# EAGLE library part MS5611-01BA03 (library freeimu)
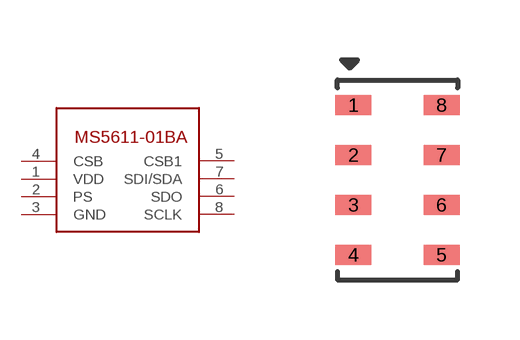
[diagram p0: symbol with the pads of MS5611-01BA03; footprint MS5611-01BA03]

Designator prefix -

## MS5611-01BA03  [MS5611-01BA03]
1  VDD
2  PS
3  GND
4  CSB
5  CSB1
6  SDO
7  SDI/SDA
8  SCLK

## Footprint MS5611-01BA03 (pad centres in mm)
smd 0.9 x 0.5: 1 -1.1,1.875; 2 -1.1,0.625; 3 -1.1,-0.625; 4 -1.1,-1.875; 5 1.1,-1.875; 6 1.1,-0.625; 7 1.1,0.625; 8 1.1,1.875